# Altium schematic symbol library MC100EPT21.SchLib: 1 symbol
Pins are listed as number, name and electrical type; pins without a type are passive.

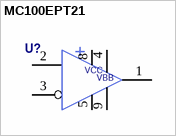
[diagram p0: symbol MC100EPT21]

## MC100EPT21
designator U?  (value not drawn)
pins: 1 OUTA, 2 D, 3 ~{D}, 4 VDD (power), 5 VSS (power), 8 VDD (power), 9 VSS (power)
text: VCC; VBB